# EAGLE library part 61301311121 (library Board_to_Board_Connectors_rev15d)
WR-PHD 2.54mm Pin Header, 13 Pins =>Code : Con_BTB_PHD_2.54_1_THT_61301311121 <http://katalog.we-online.de/media/images/eican/Con_BTB_PHD_2.54_1_THT_6130xx11121_pf2.jpg> Details see: http://katalog.we-online.de/en/em/613_0xx_111_21 Created 2014-05-29, Karrer Zheng 2014 (C) Würth Elektronik
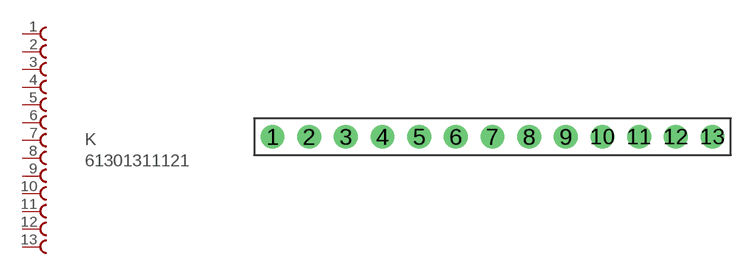
[diagram p6: symbol with the pads of 61301311121; footprint 61301311121]

Designator prefix K

## 61301311121  [61301311121]
1  1  pas
2  2  pas
3  3  pas
4  4  pas
5  5  pas
6  6  pas
7  7  pas
8  8  pas
9  9  pas
10  10  pas
11  11  pas
12  12  pas
13  13  pas

## Footprint 61301311121 (pad centres in mm)
WR-PHD 2.54mm Pin Header, 13 Pins
drill 1.1: 1 -15.24,0; 2 -12.7,0; 3 -10.16,0; 4 -7.62,0; 5 -5.08,0; 6 -2.54,0; 7 0,0; 8 2.54,0; 9 5.08,0; 10 7.62,0; 11 10.16,0; 12 12.7,0; 13 15.24,0